# EAGLE library part ARDSHLD (library 1rizmlib v1)
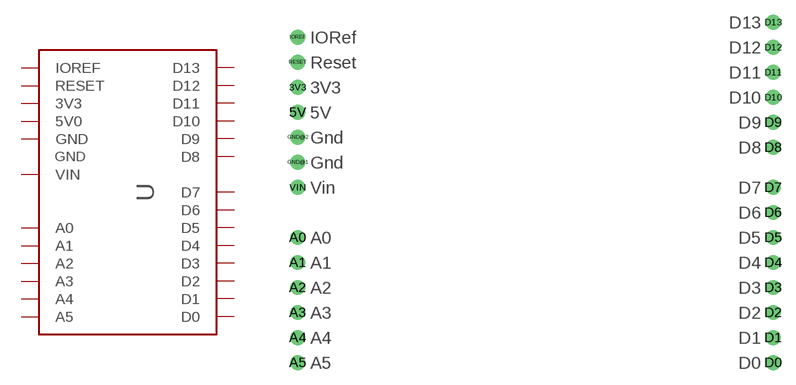
[diagram p1: symbol with the pads of ARDSHLD; footprint ARDSHLD]

Designator prefix -

## ARDSHLD  [ARDSHLD]
3V3  3V3  pas
5V  5V0  pas
A0  A0  pas
A1  A1  pas
A2  A2  pas
A3  A3  pas
A4  A4  pas
A5  A5  pas
D0  D0  pas
D1  D1  pas
D2  D2  pas
D3  D3  pas
D4  D4  pas
D5  D5  pas
D6  D6  pas
D7  D7  pas
D8  D8  pas
D9  D9  pas
D10  D10  pas
D11  D11  pas
D12  D12  pas
D13  D13  pas
GND@1  GND  pas
GND@2  GND  pas
IOREF  IOREF  pas
RESET  RESET  pas
VIN  VIN  pas

## Footprint ARDSHLD (pad centres in mm)
pinheaders of arduino shield
drill 1: 3V3 2.54,30.48; 5V 2.54,27.94; A0 2.54,15.24; A1 2.54,12.7; A2 2.54,10.16; A3 2.54,7.62; A4 2.54,5.08; A5 2.54,2.54; D0 50.8,2.54; D1 50.8,5.08; D2 50.8,7.62; D3 50.8,10.16; D4 50.8,12.7; D5 50.8,15.24; D6 50.8,17.78; D7 50.8,20.32; D8 50.8,24.384; D9 50.8,26.924; D10 50.8,29.464; D11 50.8,32.004; D12 50.8,34.544; D13 50.8,37.084; GND@1 2.54,22.86; GND@2 2.54,25.4; IOREF 2.54,35.56; RESET 2.54,33.02; VIN 2.54,20.32